# Altium schematic symbol library LT3742EUF#PBF.SchLib: 1 symbol
Pins are listed as number, name and electrical type; pins without a type are passive.

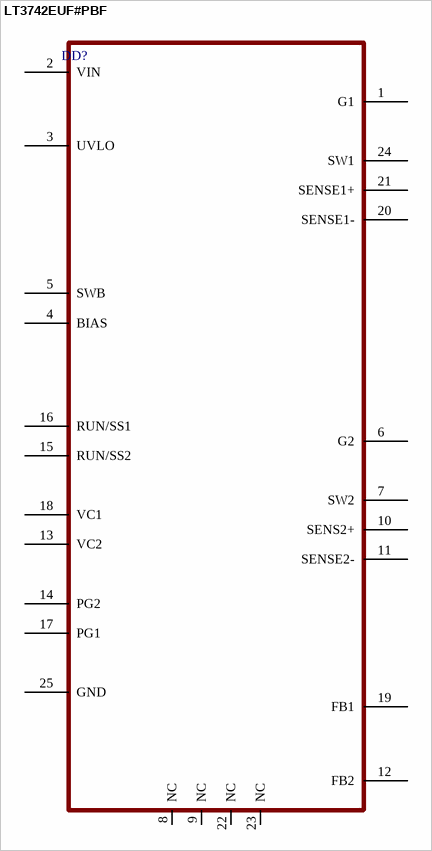
[diagram p0: symbol LT3742EUF#PBF]

## LT3742EUF#PBF
designator DD?
pins: 1 G1, 2 VIN, 3 UVLO, 4 BIAS, 5 SWB, 6 G2, 7 SW2, 8 NC, 9 NC, 10 SENS2+, 11 SENSE2-, 12 FB2, 13 VC2, 14 PG2, 15 RUN/SS2, 16 RUN/SS1, 17 PG1, 18 VC1, 19 FB1, 20 SENSE1-, 21 SENSE1+, 22 NC, 23 NC, 24 SW1, 25 GND